# Altium schematic symbol library X1G004810015.SchLib: 1 symbol
Pins are listed as number, name and electrical type; pins without a type are passive.

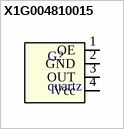
[diagram p0: symbol X1G004810015]

## X1G004810015
designator G?, comment quartz
Crystal Oscillator 1MHz - 170 MHz
footprint SG7050 (Crystal oscillator)
pins: 1 OE, 2 GND, 3 OUT, 4 Vcc